# Altium schematic symbol library ZMPT101B.SchLib: 1 symbol
Pins are listed as number, name and electrical type; pins without a type are passive.

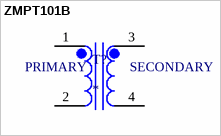
[diagram p0: symbol ZMPT101B]

## ZMPT101B
designator T?
Current-type Voltage Transformer; MP: ZMPT101B; MF: Qingxian Zeming Langxi Electronic; SnapEDA_Link: https://www.snapeda.com/parts/ZMPT101B/Qingxian+Zeming+Langxi+Electronic/view-part/?ref=snap; Package: None; Check_prices: https://www.snapeda.com/parts/ZMPT101B/Qingxian+Zeming+Langxi+Electronic/view-part/?ref=eda; Price: None; Value: *; Availability: Not in stock
footprint XFMR_ZMPT101B
pins: 1, 2, 3, 4
text: PRIMARY; SECONDARY